# Altium footprint library Xbee_Co.PcbLib: 13 footprints
Each footprint in its own frame and in the unit in brackets; x right, y up, seen from the top. Pads: shape width x height; smd on the part's side, far side on the other; paste and mask are expansions set on the pad; w line width, h text height; cw(c..) or ccw(c..) is an arc to the next point about the centre after c.
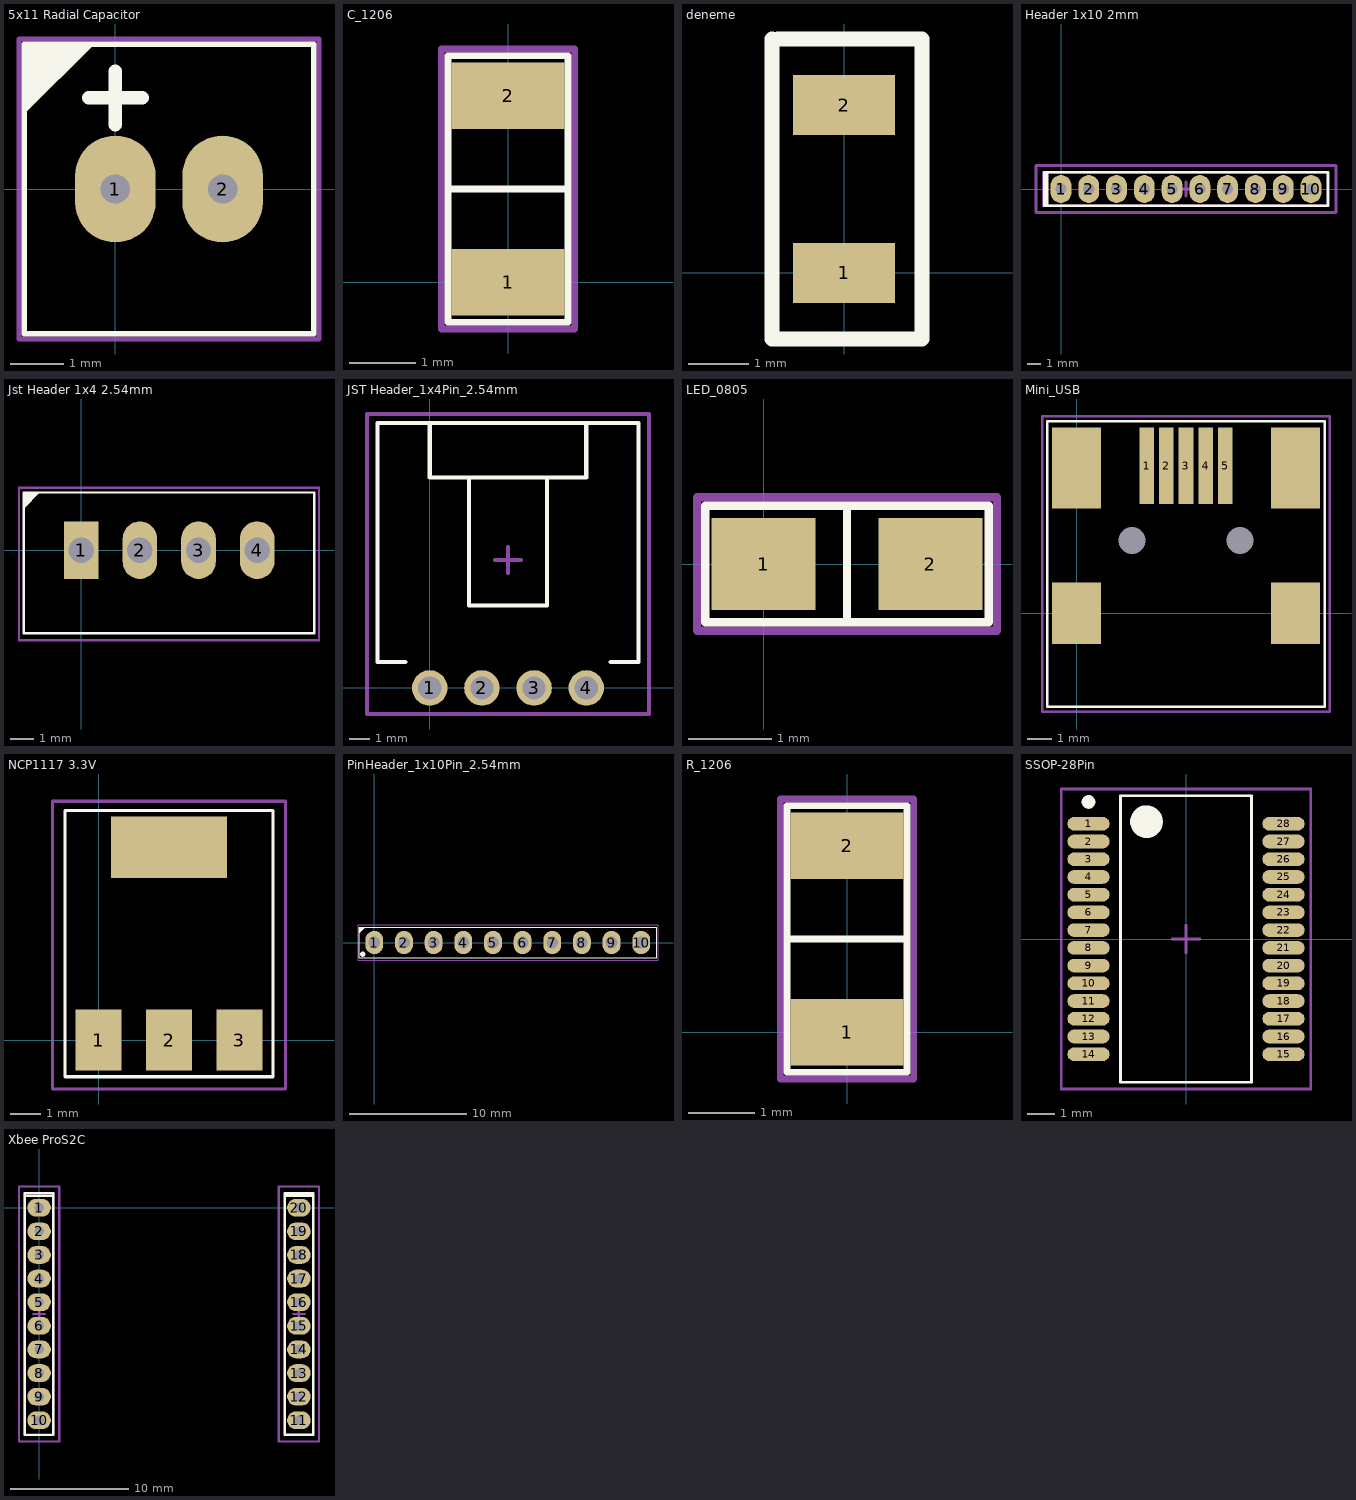
[diagram p0: the footprints below, top view; thin cyan lines are the x and y axes]

## 5x11 Radial Capacitor [mm]
pads (2):
  oval 1.5x2 hole 0.55 mask+0.05: 1(0,0) 2(2,0)
Top Overlay:
  region: -0.4,2.7 -1.7,2.7 -1.7,1.4
  lines w0.1: -1.7,-2.7 -0.05,-2.7 2.05,-2.7 3.7,-2.7 3.7,-1.45 3.7,1.05 3.7,2.7 -1.7,2.7 -1.7,-2.7
  lines w0.254: -0.5,1.7 0.5,1.7 ; 0,1.2 0,2.2 0,1.7
Mechanical 3:
  lines w0.1: -1.8,-2.8 -1.8,2.8 3.8,2.8 3.8,-2.8 -1.8,-2.8
3D body "ELECTROLITIC CAPACITOR RADIAL 5X11.step": height 11.2, standoff -2.3, extent -1.5,-2.5 3.5,2.5

## C_1206 [mm]
pads (2):
  rect 1.7x1 smd mask+0.02: 1(0,0) 2(0,2.8)
Top Overlay:
  lines w0.1: -0.9,1.4 0.9,1.4 ; -0.9,-0.6 -0.9,3.4 0.9,3.4 0.9,-0.6 -0.9,-0.6
Mechanical 1:
  lines w0.1: -1,-0.7 -1,3.5 1,3.5 1,-0.7 -1,-0.7
3D body "c1206c151j5gactu.stp": height 0.88, standoff 0, extent -0.9,-0.3 0.9,3.1

## deneme [mm]
pads (2):
  rect 1.7x1 smd mask+0.102: 1(0,0) 2(0,2.8)
Top Overlay:
  lines w0.254: -1.2,3.9 -1.2,-1.1 1.3,-1.1 1.3,3.9 -1.1,3.9
3D body "RESISTOR 1206.step": height 0.63, standoff 0.07, extent -0.83,-0.2 0.83,3

## Header 1x10 2mm [mm]
pads (10):
  oval 1.5x2 hole 0.8: 1(0,0) 2(2,0) 3(4,0) 4(6,0) 5(8,0) 6(10,0) 7(12,0) 8(14,0) 9(16,0) 10(18,0)
Top Overlay:
  lines w0.2: -1,-1.2 -1,1.2 ; -1.2,-1.2 19.2,-1.2 19.2,1.2 -1.2,1.2 -1.2,-1.2
Mechanical 1:
  lines w0.2: -1.25,-1.2 19.25,-1.2 19.25,1.2 -1.25,1.2 -1.25,-1.2
Mechanical 15:
  lines w0.2: 8.5,0 9.5,0 ; 9,-0.5 9,0.5 ; -1.8,-1.7 -1.8,1.7 19.8,1.7 19.8,-1.7 -1.8,-1.7
3D body "Sullins NPPN101BFCN-RC.STEP": height 4.41, standoff -2.39, extent -1.25,-1.2 19.25,1.2

## Jst Header 1x4 2.54mm [mm]
pads (4):
  rect 1.5x2.5 hole 1.1: 1(0,0)
  oval 1.5x2.5 hole 1.1: 2(2.54,0) 3(5.08,0) 4(7.62,0)
Top Overlay:
  region: -2.5,1.8 -1.8,2.5 -2.5,2.5
  lines w0.1: -2.5,-3.6 0.65,-3.6 6.95,-3.6 10.1,-3.6 10.1,-3.5 10.1,2.5 -2.5,2.5 -2.5,-3.4 -2.5,-3.6
Mechanical 1:
  lines w0.1: -2.7,-3.9 -2.7,2.7 10.3,2.7 10.3,-3.9 -2.7,-3.9
3D body "JST_1x4_2.54mm.step": height 7.5, standoff -2.9, extent -2.4,-3.4 10,2.35

## JST Header_1x4Pin_2.54mm [mm]
pads (4):
  round 1.73 hole 1.13: 1(0,0) 2(2.54,0) 3(5.08,0) 4(7.62,0)
Top Overlay:
  lines w0.2: -1.19,1.27 -2.54,1.27 -2.54,12.9 10.16,12.9 10.16,1.27 8.81,1.27 ; 0,12.9 0,10.242 7.62,10.242 7.62,12.9 ; 1.905,10.242 1.905,4.004 5.715,4.004 5.715,10.242
Mechanical 15:
  lines w0.2: 3.175,6.223 4.445,6.223 ; 3.81,5.588 3.81,6.858 ; -3.048,-1.27 10.668,-1.27 10.668,13.335 -3.048,13.335 -3.048,-1.27
3D body "705530003.STEP": height 6.98, standoff -3.3, extent -2.54,-0.7 10.16,12.889

## LED_0805 [mm]
pads (2):
  rect 1.25x1.1 smd mask+0.05: 1(0,0) 2(2,0)
Top Overlay:
  lines w0.1: 1,-0.7 1,0.7 ; -0.7,-0.7 -0.7,0.7 2.7,0.7 2.7,0.35 2.7,-0.35 2.7,-0.7 -0.7,-0.7
Mechanical 1:
  lines w0.1: -0.8,-0.8 2.8,-0.8 2.8,0.8 -0.8,0.8 -0.8,-0.8
3D body "0805_LED.step": height 1.1, standoff -0.01, extent -0.1,-0.625 1.9,0.625

## Mini_USB [mm]
pads (11):
  rect 0.6x3.1 smd mask+0.05: 1(2.85,6) 2(3.65,6) 3(4.45,6) 4(5.25,6) 5(6.05,6)
  rect 2x2.5 smd mask+0.05: ""(0,0) ""(8.9,0)
  rect 2x3.3 smd mask+0.05: ""(0,5.9) ""(8.9,5.9)
  round 1 hole 1.1 mask+0.02: ""(2.25,2.95) ""(6.65,2.95)
Top Overlay:
  lines w0.1: -1.2,-3.8 10.1,-3.8 10.1,7.8 -1.2,7.8 -1.2,-3.8
Mechanical 15:
  lines w0.1: -1.4,-4 10.3,-4 10.3,8 -1.4,8 -1.4,-4
3D body "MiniUSB.stp": height 4.14, standoff -0.95, extent -0.5,-2.9 9.4,6.3

## NCP1117 3.3V [mm]
pads (4):
  rect 1.5x2 smd mask+0.05: 1(0,0) 2(2.3,0) 3(4.6,0)
  rect 3.8x2 smd mask+0.05: ""(2.3,6.3)
Top Overlay:
  lines w0.1: -1.1,-1.2 -1.1,7.5 5.7,7.5 5.7,7.3 5.7,5.125 5.7,0.775 5.7,-1.2 -1.1,-1.2
Mechanical 1:
  lines w0.1: -1.5,-1.6 -1.5,7.7 -1.5,7.8 6.1,7.8 6.1,-1.6 -1.5,-1.6
3D body "Linear(NCP1117ST50T3G).step": height 1.73, standoff 0.04, extent -0.95,-0.5 5.55,6.5

## PinHeader_1x10Pin_2.54mm [mm]
pads (10):
  oval 1.524x2 hole 1: 1(0,0) 2(2.54,0) 3(5.08,0) 4(7.62,0) 5(10.16,0) 6(12.7,0) 7(15.24,0) 8(17.78,0) 9(20.32,0) 10(22.86,0)
Top Overlay:
  circle w0.254: c-1,-1 r0.1
  region: -1.3,1.3 -0.8,1.3 -1.3,0.8
  region: 0.3,2.1
  lines w0.1: -1.3,-1.3 -1.3,1.3 24.2,1.3 24.2,-1.3 -1.3,-1.3
Mechanical 3:
  lines w0.1: -1.4,-1.5 -1.4,1.4 -1.4,1.5 -1.3,1.5 24.3,1.5 24.3,-1.5 -1.4,-1.5
3D body "1x10 TH Pitch 2_54mm.STEP": height 9.4, standoff -3.3, extent -1.253,-1.257 24.147,1.283

## R_1206 [mm]
pads (2):
  rect 1.7x1 smd mask+0.02: 1(0,0) 2(0,2.8)
Top Overlay:
  lines w0.1: -0.9,1.4 0.9,1.4 ; -0.9,-0.6 0.9,-0.6 0.9,3.4 -0.9,3.4 -0.9,-0.6
Mechanical 1:
  lines w0.1: -1,-0.7 1,-0.7 1,3.5 -1,3.5 -1,-0.7
3D body "RESISTOR 1206.step": height 0.63, standoff 0.07, extent -0.83,-0.2 0.83,3

## SSOP-28Pin [mm] "SOP, 28-Leads, Body 10,28x5,30mm, Pitch 0,65mm, IPC Medium Density"
height 2
pads (28):
  oval 1.55x0.5 smd mask+0.05: 1(-3.575,4.225) 2(-3.575,3.575) 3(-3.575,2.925) 4(-3.575,2.275) 5(-3.575,1.625) 6(-3.575,0.975) 7(-3.575,0.325) 8(-3.575,-0.325) 9(-3.575,-0.975) 10(-3.575,-1.625) 11(-3.575,-2.275) 12(-3.575,-2.925) 13(-3.575,-3.575) 14(-3.575,-4.225) 15(3.575,-4.225) 16(3.575,-3.575) 17(3.575,-2.925) 18(3.575,-2.275) 19(3.575,-1.625) 20(3.575,-0.975) 21(3.575,-0.325) 22(3.575,0.325) 23(3.575,0.975) 24(3.575,1.625) 25(3.575,2.275) 26(3.575,2.925) 27(3.575,3.575) 28(3.575,4.225)
Top Overlay:
  circle w0.25: c-3.575,5.025 r0.125
  circle w0.6: c-1.45,4.3 r0.3
  lines w0.1: -2.4,-5.25 -2.4,5.25 2.4,5.25 2.4,-5.25 -2.4,-5.25
Mechanical 3:
  lines w0.1: -0.5,0 0.5,0 ; 0,-0.5 0,0.5 ; -4.575,-5.5 -4.575,5.5 4.575,5.5 4.575,-5.5 -4.575,-5.5
3D body "SSOP-28-FT232RL.step": height 2.16, standoff 0, extent -3.878,-5.165 3.878,5.165

## Xbee ProS2C [mm]
pads (20):
  oval 2x1.5 hole 0.8: 1(0,0) 2(0,-2) 3(0,-4) 4(0,-6) 5(0,-8) 6(0,-10) 7(0,-12) 8(0,-14) 9(0,-16) 10(0,-18) 11(22,-18) 12(22,-16) 13(22,-14) 14(22,-12) 15(22,-10) 16(22,-8) 17(22,-6) 18(22,-4) 19(22,-2) 20(22,0)
Top Overlay:
  lines w0.2: -1.2,1 1.2,1 ; 20.8,1 23.2,1 ; -1.2,-19.25 1.2,-19.25 1.2,1.25 -1.2,1.25 -1.2,-19.25 ; 20.8,-19.25 20.8,1.25 23.2,1.25 23.2,-19.25 20.8,-19.25 ; 20.8,-19.2 20.8,1.2 23.2,1.2 23.2,-19.2 20.8,-19.2
Mechanical 1:
  lines w0.2: -1.2,-19.25 -1.2,1.25 1.2,1.25 1.2,-19.25 -1.2,-19.25 ; -1.2,-19.2 1.2,-19.2 1.2,1.2 -1.2,1.2 -1.2,-19.2
Mechanical 15:
  lines w0.2: -0.5,-9 0.5,-9 ; 0,-9.5 0,-8.5 ; 21.5,-9 22.5,-9 ; 22,-9.5 22,-8.5 ; -1.7,-19.8 -1.7,1.8 1.7,1.8 1.7,-19.8 -1.7,-19.8 ; 20.3,-19.8 20.3,1.8 23.7,1.8 23.7,-19.8 20.3,-19.8
3D body "Sullins NPPN101BFCN-RC.STEP": height 4.41, standoff -2.39, extent 20.8,-19.25 23.2,1.25
3D body "Sullins NPPN101BFCN-RC.STEP": height 4.41, standoff -2.39, extent -1.2,-19.25 1.2,1.25
3D body "Sullins NPPN101BFCN-RC.STEP": height 4.41, standoff -2.39, extent -1.2,-19.25 1.2,1.25